# Altium schematic symbol library ATXconnectors.SchLib: 1 symbol
Pins are listed as number, name and electrical type; pins without a type are passive.

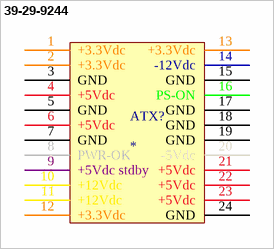
[diagram p0: symbol 39-29-9244]

## 39-29-9244
designator ATX?
ATX 24 pin connector; Digikey Part Number: WM7345-ND
footprint 24-POS 5566
pins: 1 +3.3Vdc, 2 +3.3Vdc, 3 GND, 4 +5Vdc, 5 GND, 6 +5Vdc, 7 GND, 8 PWR-OK, 9 +5Vdc stdby, 10 +12Vdc, 11 +12Vdc, 12 +3.3Vdc, 13 +3.3Vdc, 14 -12Vdc, 15 GND, 16 PS-ON, 17 GND, 18 GND, 19 GND, 20 -5Vdc, 21 +5Vdc, 22 +5Vdc, 23 +5Vdc, 24 GND